# EAGLE library part ARM_20PIN_JTAG (library arm_jtag)
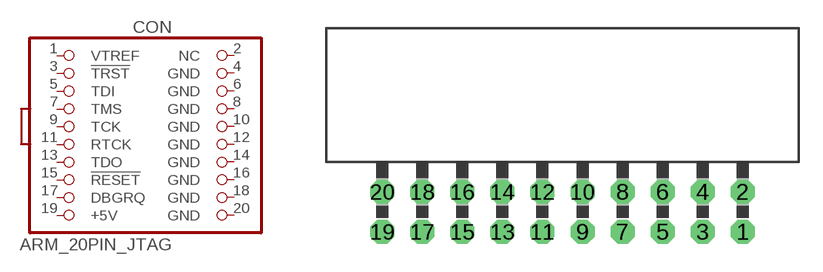
[diagram p0: symbol with the pads of 2X10/90; footprint 2X10/90]

Designator prefix CON

## ARM_20PIN_JTAG  [2X10/90]
1  VTREF  pas
2  NC  nc
3  !TRST  in
4  GND  pas
5  TDI  in
6  GND  pas
7  TMS  in
8  GND  pas
9  TCK  in
10  GND  pas
11  RTCK  in
12  GND  pas
13  TDO  out
14  GND  pas
15  !RESET  in
16  GND  pas
17  DBGRQ  nc
18  GND  pas
19  +5V  pas
20  GND  pas

## Footprint 2X10/90 (pad centres in mm)
PIN HEADER
drill 1.016 octagon: 1 11.43,-6.35; 2 11.43,-3.81; 3 8.89,-6.35; 4 8.89,-3.81; 5 6.35,-6.35; 6 6.35,-3.81; 7 3.81,-6.35; 8 3.81,-3.81; 9 1.27,-6.35; 10 1.27,-3.81; 11 -1.27,-6.35; 12 -1.27,-3.81; 13 -3.81,-6.35; 14 -3.81,-3.81; 15 -6.35,-6.35; 16 -6.35,-3.81; 17 -8.89,-6.35; 18 -8.89,-3.81; 19 -11.43,-6.35; 20 -11.43,-3.81